# EAGLE library part TS5A23159 (library misc)
2 1.1Ω 1.65V~5.5V VSSOP-10-0.5mm Analog Switches, Multiplexers, Demultiplexers RoHS
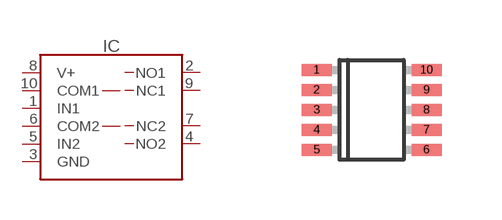
[diagram p102: symbol with the pads of VSSOP10; footprint VSSOP10]

Designator prefix IC

## TS5A23159-VSSOP10 (LCSC#: C42751; MANF: TI; MANF#: TS5A23159)  [VSSOP10]
1  IN1
2  NO1
3  GND
4  NO2
5  IN2
6  COM2
7  NC2
8  V+
9  NC1
10  COM1

## Footprint VSSOP10 (pad centres in mm)
smd 0.75 x 0.3: 1 -1.375,1; 2 -1.375,0.5; 3 -1.375,0; 4 -1.375,-0.5; 5 -1.375,-1; 6 1.375,-1; 7 1.375,-0.5; 8 1.375,0; 9 1.375,0.5; 10 1.375,1